# Altium schematic symbol library 68000-402HLF.SchLib: 1 symbol
Pins are listed as number, name and electrical type; pins without a type are passive.

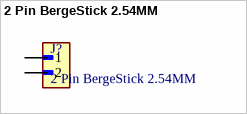
[diagram p0: symbol 2 Pin BergeStick 2.54MM]

## 2 Pin BergeStick 2.54MM
designator J?
2 Pin 2Pos THT BergeStick 2.54MM Amphenol 68000-402HLF 3A; Package: None; Price: None; Value: *; MP: 68000-402HLF; Availability: Unavailable
footprint AMPHENOL_68000-402HLF
pins: 1, 2